# Altium schematic symbol library AP62301Z6-7.SchLib: 1 symbol
Pins are listed as number, name and electrical type; pins without a type are passive.

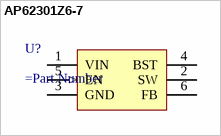
[diagram p0: symbol AP62301Z6-7]

## AP62301Z6-7
designator U?
=Description; Manufacturer: Diodes; Manufacturer Part Number: AP62301Z6-7; Supplier: Newark; Supplier Part Number: 12AJ6798; RoHS: Yes; Category: Voltage Regulators - Switching; Stock: 3990; Pricing: 5=0.64, 10=0.548, 25=0.492, 50=0.435, 100=0.38, 250=0.351, 500=0.321, 1000=0.249 (CAD)
pins: 1 VIN (power), 2 SW, 3 GND (power), 4 BST, 5 EN (in), 6 FB